# EAGLE library part INVENSENSE-MPU9250 (library GClueSensor)
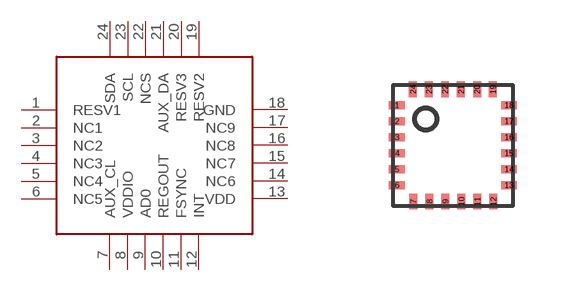
[diagram p5: symbol with the pads of LGA-24; footprint LGA-24]

Designator prefix -

## INVENSENSE-MPU9250  [LGA-24]
1  RESV1
2  NC1
3  NC2
4  NC3
5  NC4
6  NC5
7  AUX_CL
8  VDDIO
9  AD0
10  REGOUT
11  FSYNC
12  INT
13  VDD
14  NC6
15  NC7
16  NC8
17  NC9
18  GND
19  RESV2
20  RESV3
21  AUX_DA
22  NCS
23  SCL
24  SDA

## Footprint LGA-24 (pad centres in mm)
smd 0.4 x 0.2: 1 -1.4,1.01; 2 -1.4,0.61; 3 -1.4,0.21; 4 -1.4,-0.19; 5 -1.4,-0.59; 6 -1.4,-0.99; 13 1.4,-0.99; 14 1.4,-0.59; 15 1.4,-0.19; 16 1.4,0.21; 17 1.4,0.61; 18 1.4,1.01
smd 0.2 x 0.4: 7 -0.99,-1.4; 8 -0.59,-1.4; 9 -0.19,-1.4; 10 0.21,-1.4; 11 0.61,-1.4; 12 1.01,-1.4; 19 1,1.4; 20 0.6,1.4; 21 0.2,1.4; 22 -0.2,1.4; 23 -0.6,1.4; 24 -1,1.4